# Altium footprint library tor1kkLib.PcbLib: 48 footprints (part 3 of 3)
Each footprint in its own frame and in the unit in brackets; x right, y up, seen from the top. Pads: shape width x height; smd on the part's side, far side on the other; paste and mask are expansions set on the pad; w line width, h text height; cw(c..) or ccw(c..) is an arc to the next point about the centre after c.
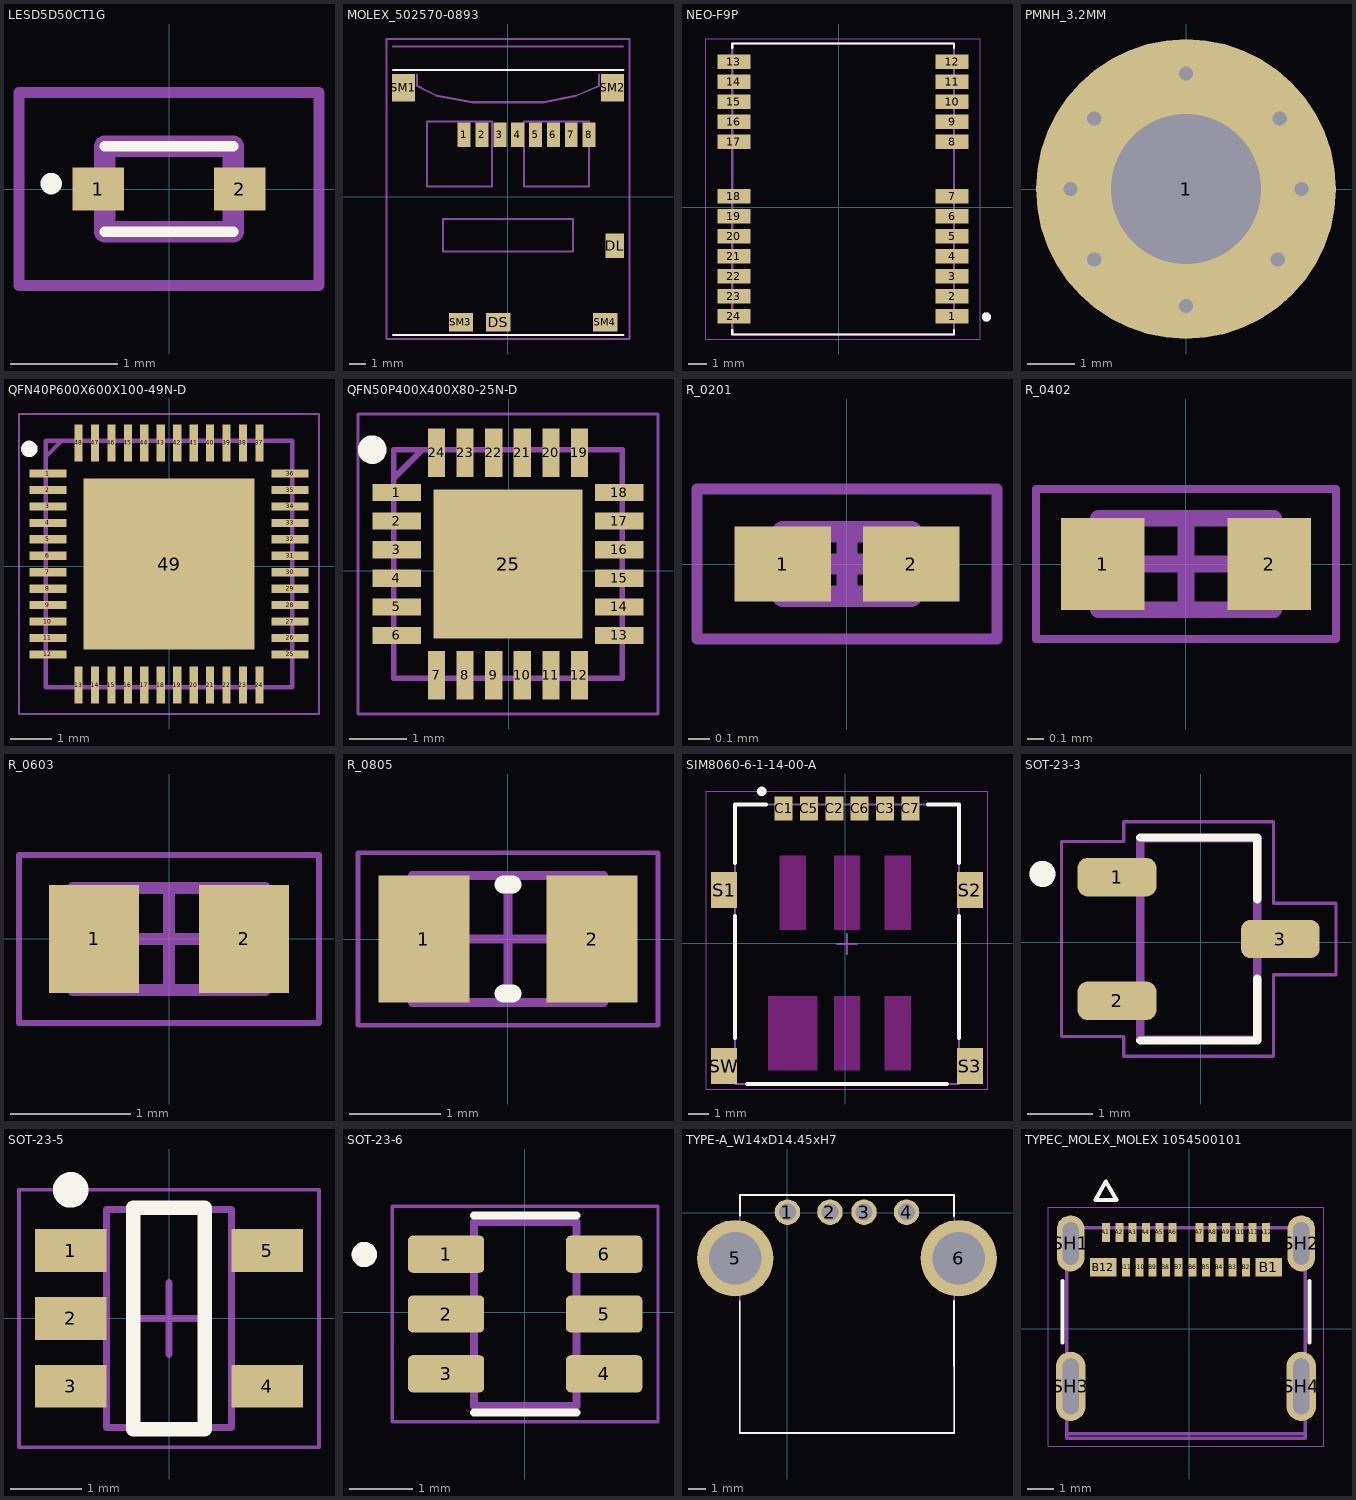
[diagram p2: the footprints below, top view; thin cyan lines are the x and y axes]

## LESD5D50CT1G [mm]
pads (2):
  rect 0.48x0.4 smd: 1(-0.66,0) 2(0.66,0)
Top Overlay:
  lines w0.1: -0.6,-0.4 0.6,-0.4 ; -0.6,0.4 0.6,0.4 ; -1.1,0 cw(c-1.1,0.05) -1.1,0.1 cw(c-1.1,0.05) -1.1,0
Mechanical 13:
  lines w0.2: -0.6,-0.4 0.6,-0.4 0.6,0.4 -0.6,0.4 -0.6,-0.4
Mechanical 15:
  lines w0.1: -1.4,-0.9 1.4,-0.9 1.4,0.9 -1.4,0.9 -1.4,-0.9
3D body "LESD5D5.0CT1G.stp": height 0.6, standoff 0, extent -0.8,-0.399 0.8,0.399

## MOLEX_502570-0893 [mm]
pads (14):
  rect 0.8x1.5 smd: 1(-2.684,3.828) 2(-1.584,3.828) 3(-0.484,3.828) 4(0.616,3.828) 5(1.716,3.828) 6(2.816,3.828) 7(3.916,3.828) 8(5.016,3.828)
  rect 1.15x1.5 smd: DL(6.591,-3.022)
  rect 1.5x1.15 smd: DS(-0.584,-7.747) SM3(-2.884,-7.747) SM4(6.016,-7.747)
  rect 1.4x1.7 smd: SM1(-6.434,6.728) SM2(6.466,6.728)
Top Overlay:
  lines w0.127: -7.059,-8.522 7.141,-8.522 ; -7.059,7.803 7.141,7.803
Mechanical 13:
  lines w0.127: -7.084,9.278 7.116,9.278 ; -5.584,7.528 -5.584,6.828 -4.384,6.228 -2.184,5.828 2.216,5.828 4.216,6.228 5.616,6.828 5.616,7.528 ; -4.984,0.628 -0.984,0.628 -0.984,4.628 -4.984,4.628 -4.984,0.628 ; -3.984,-3.372 4.016,-3.372 4.016,-1.372 -3.984,-1.372 -3.984,-3.372 ; 1.016,0.628 1.016,4.628 5.016,4.628 5.016,0.628 1.016,0.628
Mechanical 15:
  lines w0.127: -7.484,-8.772 7.516,-8.772 7.516,9.728 -7.484,9.728 -7.484,-8.772
3D body "502570-0893--3DModel-STEP-1.STEP": height 1.95, standoff 0, extent -7.05,-8.45 6.75,7.05

## NEO-F9P [mm]
pads (24):
  rect 1.8x0.8 smd paste-2: 1(6.226,-5.999) 2(6.226,-4.899) 3(6.226,-3.799) 4(6.226,-2.699) 5(6.226,-1.599) 6(6.226,-0.499) 7(6.226,0.601) 8(6.226,3.601) 9(6.226,4.701) 10(6.226,5.801) 11(6.226,6.901) 12(6.226,8.001) 13(-5.774,8.001) 14(-5.774,6.901) 15(-5.774,5.801) 16(-5.774,4.701) 17(-5.774,3.601) 18(-5.774,0.601) 19(-5.774,-0.499) 20(-5.774,-1.599) 21(-5.774,-2.699) 22(-5.774,-3.799) 23(-5.774,-4.899) 24(-5.774,-5.999)
Top Overlay:
  circle w0.3: c8.115,-6.035 r0.1
  lines w0.127: -5.874,-6.749 -5.874,-6.999 6.326,-6.999 6.326,-6.749 ; -5.874,8.751 -5.874,9.001 6.326,9.001 6.326,8.751
Top Paste:
  drawing of 48 lines, arcs and shapes, not listed
Mechanical 13:
  circle w0.3: c8.115,-6.035 r0.1
  lines w0.127: -5.874,-6.999 -5.874,9.001 6.326,9.001 6.326,-6.999 -5.874,-6.999
Mechanical 15:
  lines w0.05: -7.324,-7.249 -7.324,9.251 7.776,9.251 7.776,-7.249 -7.324,-7.249
3D body "step_temp.STEP": height 2.6, standoff 0, extent -5.874,-6.999 6.326,9.001

## PMNH_3.2MM [mm]
pads (1):
  round 6.4 hole 3.2: 1(0,0)
via 2.466,0 diameter 0.7 hole 0.3
via -2.466,0 diameter 0.7 hole 0.3
via 0,-2.5 diameter 0.7 hole 0.3
via 0,2.466 diameter 0.7 hole 0.3
via 2,1.5 diameter 0.7 hole 0.3
via -1.957,1.5 diameter 0.7 hole 0.3
via -1.957,-1.5 diameter 0.7 hole 0.3
via 1.957,-1.5 diameter 0.7 hole 0.3

## QFN40P600X600X100-49N-D [mm]
pads (49):
  rect 0.9x0.2 smd: 1(-2.955,2.259) 2(-2.955,1.859) 3(-2.955,1.459) 4(-2.955,1.059) 5(-2.955,0.659) 6(-2.955,0.259) 7(-2.955,-0.141) 8(-2.955,-0.541) 9(-2.955,-0.941) 10(-2.955,-1.341) 11(-2.955,-1.741) 12(-2.955,-2.141) 25(2.945,-2.141) 26(2.945,-1.741) 27(2.945,-1.341) 28(2.945,-0.941) 29(2.945,-0.541) 30(2.945,-0.141) 31(2.945,0.259) 32(2.945,0.659) 33(2.945,1.059) 34(2.945,1.459) 35(2.945,1.859) 36(2.945,2.259)
  rect 0.2x0.9 smd: 13(-2.205,-2.891) 14(-1.805,-2.891) 15(-1.405,-2.891) 16(-1.005,-2.891) 17(-0.605,-2.891) 18(-0.205,-2.891) 19(0.195,-2.891) 20(0.595,-2.891) 21(0.995,-2.891) 22(1.395,-2.891) 23(1.795,-2.891) 24(2.195,-2.891) 37(2.195,3.009) 38(1.795,3.009) 39(1.395,3.009) 40(0.995,3.009) 41(0.595,3.009) 42(0.195,3.009) 43(-0.205,3.009) 44(-0.605,3.009) 45(-1.005,3.009) 46(-1.405,3.009) 47(-1.805,3.009) 48(-2.205,3.009)
  rect 4.15x4.15 smd: 49(-0.005,0.059)
Top Overlay:
  circle w0.2: c-3.405,2.859 r0.1
Mechanical 13:
  lines w0.1: -3.005,2.659 -2.605,3.059 ; -3.005,-2.941 -3.005,3.059 2.995,3.059 2.995,-2.941 -3.005,-2.941
Mechanical 15:
  lines w0.05: -3.655,-3.591 -3.655,3.709 3.645,3.709 3.645,-3.591 -3.655,-3.591
3D body "TPS65217CRSLR.stp": height 1, standoff 0, extent -3.055,-2.991 3.045,3.109

## QFN50P400X400X80-25N-D [mm]
pads (25):
  rect 0.85x0.3 smd: 1(-1.963,1.365) 2(-1.963,0.865) 3(-1.963,0.365) 4(-1.963,-0.135) 5(-1.963,-0.635) 6(-1.963,-1.135) 13(1.937,-1.135) 14(1.937,-0.635) 15(1.937,-0.135) 16(1.937,0.365) 17(1.937,0.865) 18(1.937,1.365)
  rect 0.3x0.85 smd: 7(-1.263,-1.835) 8(-0.763,-1.835) 9(-0.263,-1.835) 10(0.237,-1.835) 11(0.737,-1.835) 12(1.237,-1.835) 19(1.237,2.065) 20(0.737,2.065) 21(0.237,2.065) 22(-0.263,2.065) 23(-0.763,2.065) 24(-1.263,2.065)
  rect 2.6x2.6 smd: 25(-0.013,0.115)
Top Overlay:
  circle w0.25: c-2.388,2.115 r0.125
Mechanical 13:
  lines w0.1: -2.013,1.615 -1.513,2.115 ; -2.013,-1.885 1.987,-1.885 1.987,2.115 -2.013,2.115 -2.013,-1.885
Mechanical 15:
  lines w0.05: -2.638,-2.51 2.612,-2.51 2.612,2.74 -2.638,2.74 -2.638,-2.51
3D body "FE1.1S-BQFN24B.stp": height 0.8, standoff 0, extent -2.063,-1.935 2.037,2.165

## R_0201 [mm]
height 0.3
pads (2):
  rect 0.45x0.35 smd: 1(-0.3,0) 2(0.3,0)
Mechanical 13:
  lines w0.1: -0.3,-0.15 -0.3,0.15 0.3,0.15 0.3,-0.15 -0.3,-0.15
Mechanical 15:
  lines w0.05: -0.7,-0.35 -0.7,0.35 0.7,0.35 0.7,-0.35 -0.7,-0.35
  lines w0.1: -0.15,0 0.15,0 ; 0,-0.15 0,0.15
3D body: height 0.3, standoff 0, extent -0.1,-0.15 0.1,0.15
3D body: height 0.3, standoff 0, extent -0.3,-0.15 -0.1,0.15
3D body: height 0.3, standoff 0, extent 0.1,-0.15 0.3,0.15

## R_0402 [mm]
height 0.37
pads (2):
  rect 0.5x0.55 smd: 1(-0.5,0) 2(0.5,0)
Mechanical 13:
  lines w0.1: -0.525,-0.275 -0.525,0.275 0.525,0.275 0.525,-0.275 -0.525,-0.275
Mechanical 15:
  lines w0.05: -0.9,-0.45 -0.9,0.45 0.9,0.45 0.9,-0.45 -0.9,-0.45
  lines w0.1: -0.275,0 0.275,0 ; 0,-0.275 0,0.275
3D body "R_0402.step": height 0.37, standoff 0, extent -0.525,-0.275 0.525,0.275

## R_0603 [mm]
height 0.55
pads (2):
  rect 0.75x0.9 smd: 1(-0.625,0) 2(0.625,0)
Mechanical 13:
  lines w0.1: -0.8,-0.425 -0.8,0.425 0.8,0.425 0.8,-0.425 -0.8,-0.425
Mechanical 15:
  lines w0.05: -1.25,-0.7 -1.25,0.7 1.25,0.7 1.25,-0.7 -1.25,-0.7
  lines w0.1: -0.425,0 0.425,0 ; 0,-0.425 0,0.425
3D body: height 0.55, standoff 0, extent -0.32,-0.425 0.32,0.425
3D body: height 0.55, standoff 0, extent -0.8,-0.425 -0.32,0.425
3D body: height 0.55, standoff 0, extent 0.32,-0.425 0.8,0.425

## R_0805 [mm]
height 0.7
pads (2):
  rect 1x1.4 smd: 1(-0.925,0) 2(0.925,0)
Top Overlay:
  lines w0.2: -0.05,-0.6 0.05,-0.6 ; -0.05,0.6 0.05,0.6
Mechanical 13:
  lines w0.1: -1.05,-0.7 -1.05,0.7 1.05,0.7 1.05,-0.7 -1.05,-0.7
Mechanical 15:
  lines w0.05: -1.65,-0.95 -1.65,0.95 1.65,0.95 1.65,-0.95 -1.65,-0.95
  lines w0.1: -0.5,0 0.5,0 ; 0,-0.5 0,0.5
3D body: height 0.7, standoff 0, extent -0.55,-0.7 0.55,0.7
3D body: height 0.7, standoff 0, extent -1.05,-0.7 -0.55,0.7
3D body: height 0.7, standoff 0, extent 0.55,-0.7 1.05,0.7

## SIM8060-6-1-14-00-A [mm]
pads (10):
  rect 0.9x1.2 smd: C1(-3.087,6.743) C2(-0.547,6.743) C3(1.993,6.743) C5(-1.817,6.743) C6(0.723,6.743) C7(3.263,6.743)
  rect 1.3x1.8 smd: S1(-6.062,2.643) S2(6.238,2.643) S3(6.238,-6.157) SW(-6.062,-6.157)
Top Overlay:
  circle w0.24: c-4.179,7.588 r0.12
  lines w0.2: -5.512,-4.756 -5.512,1.34 ; -5.512,4.007 -5.512,6.943 -3.976,6.943 ; -4.912,-7.057 5.088,-7.057 ; 4.152,6.943 5.688,6.943 5.688,4.007 ; 5.688,-4.756 5.688,1.34
Keep-Out Layer:
  region: 3.278,-6.357 1.978,-6.357 1.978,-2.657 3.278,-2.657
  region: 0.738,-6.357 -0.562,-6.357 -0.562,-2.657 0.738,-2.657
  region: -1.402,-6.357 -3.842,-6.357 -3.842,-2.657 -1.402,-2.657
  region: 3.278,0.663 1.978,0.663 1.978,4.363 3.278,4.363
  region: 0.738,0.663 -0.562,0.663 -0.562,4.363 0.738,4.363
  region: -1.972,0.663 -3.272,0.663 -3.272,4.363 -1.972,4.363
  region: 3.278,-6.357 1.978,-6.357 1.978,-2.657 3.278,-2.657
  region: 0.738,-6.357 -0.562,-6.357 -0.562,-2.657 0.738,-2.657
  region: -1.402,-6.357 -3.842,-6.357 -3.842,-2.657 -1.402,-2.657
  region: 3.278,0.663 1.978,0.663 1.978,4.363 3.278,4.363
  region: 0.738,0.663 -0.562,0.663 -0.562,4.363 0.738,4.363
  region: -1.972,0.663 -3.272,0.663 -3.272,4.363 -1.972,4.363
Mechanical 13:
  lines w0.1: -5.512,-7.057 -5.512,6.943 5.688,6.943 5.688,-7.057 -5.512,-7.057
Mechanical 15:
  lines w0.05: -6.962,-7.307 -6.962,7.593 7.138,7.593 7.138,-7.307 -6.962,-7.307
  lines w0.1: -0.412,-0.057 0.588,-0.057 ; 0.088,-0.557 0.088,0.443
3D body "sim8060-6-1-14-00-a.stp": height 1.4, standoff -0.03, extent -6.162,-7.05 6.238,7.05

## SOT-23-3 [mm]
pads (3):
  rrect50% 1.21x0.59 smd: 1(-1.287,0.997) 2(-1.287,-0.903) 3(1.223,0.047)
Top Overlay:
  circle w0.2: c-2.432,1.047 r0.1
  lines w0.127: -0.932,-1.512 0.868,-1.512 0.868,-0.562 ; -0.932,1.606 0.868,1.606 0.868,0.656
Mechanical 13:
  circle w0.2: c-2.432,1.047 r0.1
  lines w0.127: -0.932,-1.503 0.868,-1.503 0.868,1.597 -0.932,1.597 -0.932,-1.503
Mechanical 15:
  lines w0.05: -2.142,-1.453 -2.142,1.547 -1.182,1.547 -1.182,1.847 1.118,1.847 1.118,0.597 2.078,0.597 2.078,-0.503 1.118,-0.503 1.118,-1.753 -1.182,-1.753 -1.182,-1.453 -2.142,-1.453
3D body "AO3402.STEP": height 1.25, standoff 0, extent -1.4,-1.403 1.4,1.497

## SOT-23-5 [mm] "SOT23, 5-Leads, Body 2,90x2,80mm, Pitch 0,95mm, IPC Medium Density"
height 1.45
pads (5):
  rect 1x0.6 smd: 1(-1.375,0.95) 2(-1.375,0) 3(-1.375,-0.95) 4(1.375,-0.95) 5(1.375,0.95)
Top Overlay:
  circle w0.25: c-1.375,1.8 r0.125
  lines w0.2: -0.5,-1.55 0.5,-1.55 0.5,1.55 -0.5,1.55 -0.5,-1.55
Mechanical 13:
  lines w0.1: -0.875,-1.525 -0.875,1.525 0.875,1.525 0.875,-1.525 -0.875,-1.525
Mechanical 15:
  lines w0.05: -2.1,-1.8 -2.1,1.8 2.1,1.8 2.1,-1.8 -2.1,-1.8
  lines w0.1: -0.5,0 0.5,0 ; 0,-0.5 0,0.5
3D body: height 1.45, standoff 0.15, extent -0.875,-1.525 0.875,1.525

## SOT-23-6 [mm]
pads (6):
  rrect25% 1.21x0.59 smd: 1(-1.251,0.925) 2(-1.251,-0.025) 3(-1.251,-0.975) 4(1.259,-0.975) 5(1.259,-0.025) 6(1.259,0.925)
Top Overlay:
  circle w0.2: c-2.551,0.92 r0.1
  lines w0.127: -0.808,-1.59 0.817,-1.59 ; -0.808,1.54 0.817,1.54
Mechanical 13:
  circle w0.2: c-2.551,0.92 r0.1
  lines w0.127: -0.808,-1.487 -0.808,1.438 0.817,1.438 0.817,-1.487 -0.808,-1.487
Mechanical 15:
  lines w0.05: -2.106,-1.737 2.114,-1.737 2.114,1.688 -2.106,1.688 -2.106,-1.737
3D body "step_temp.STEP": height 1.4, standoff -0.05, extent -1.396,-1.487 1.404,1.438

## TYPE-A_W14xD14.45xH7 [mm]
pads (6):
  round 1.5 hole 1: 1(0.012,0.031) 2(2.512,0.031) 3(4.512,0.031) 4(7.012,0.031)
  round 4.5 hole 3.1: 5(-3.058,-2.679) 6(10.082,-2.679)
Top Overlay:
  lines w0.1: -2.801,-5.175 -2.788,-12.959 9.812,-12.959 9.799,-5.175 ; -2.775,-0.185 -2.775,1.041 9.8,1.041 ; 9.803,-0.192 9.803,1.034
Mechanical 13:
  lines w0.1: -2.788,-12.959 -2.788,1.041 9.812,1.041 9.812,-12.959 -2.788,-12.959
3D body "292303-1.stp": height 7.72, standoff -3.64, extent -4.625,-12.959 11.607,1.041

## TYPEC_MOLEX_MOLEX 1054500101 [mm]
pads (28):
  rect 0.298x0.7 smd mask+0.064: A1(-3.127,3.603) A2(-2.627,3.603) A3(-2.127,3.603) A4(-1.627,3.603) A5(-1.127,3.603) A6(-0.627,3.603) A7(0.373,3.603) A8(0.873,3.603) A9(1.373,3.603) A10(1.873,3.603) A11(2.373,3.603) A12(2.873,3.603) B2(2.123,2.303) B3(1.623,2.303) B4(1.123,2.303) B5(0.623,2.303) B6(0.123,2.303) B7(-0.4,2.303) B8(-0.877,2.303) B9(-1.377,2.303) B10(-1.877,2.303) B11(-2.377,2.303)
  rect 0.998x0.7 smd mask+0.064: B1(2.973,2.303) B12(-3.227,2.303)
  oval 1.036x2.1 hole 0.6 slot 1.6 at 90 deg mask+0.064: SH1(-4.447,3.193) SH2(4.193,3.193)
  oval 1.1x2.6 hole 0.6 slot 2.1 at 90 deg mask+0.064: SH3(-4.447,-2.167) SH4(4.193,-2.167)
Top Overlay:
  lines w0.15: -4.747,-0.517 -4.747,1.783 ; 4.493,-0.517 4.493,1.783 ; -3.527,4.811 -2.727,4.811 -3.127,5.511 -3.527,4.811
Mechanical 13:
  lines w0.13: -4.597,-3.937 4.343,-3.937 ; 4.343,-3.937 4.343,-4.117 -4.597,-4.117 -4.597,3.783 4.343,3.783 4.343,-3.937 ; -3.527,4.811 -2.727,4.811 -3.127,5.511 -3.527,4.811
Mechanical 15:
  lines w0.01: -5.297,-4.417 5.043,-4.417 5.043,4.543 -5.297,4.543 -5.297,-4.417
3D body "105450-0101--3DModel-STEP-56544.STEP": height 3.2, standoff -0.9, extent -4.495,-3.95 4.445,3.95